# Altium integrated library ALTIUM-WCAP-PHGP-rev18a.IntLib: 20 symbols
Pins are listed as number, name and electrical type; pins without a type are passive.

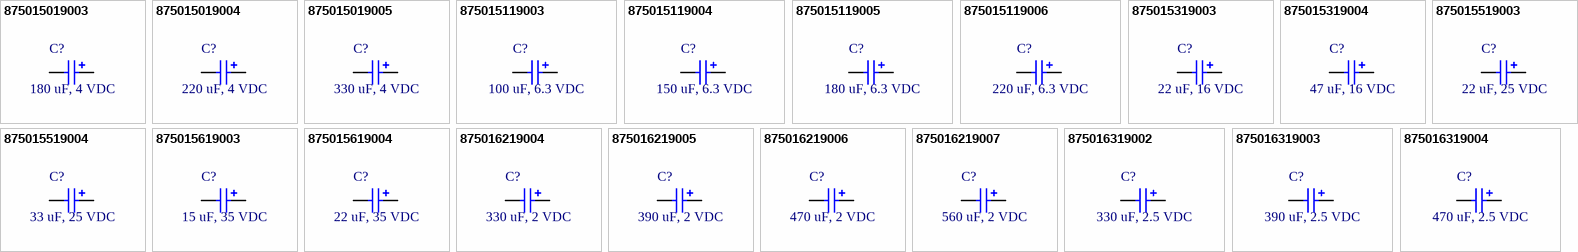
[diagram p0: symbols 875015019003 to 875016319004]

## 875015019003
designator C?, comment 180 uF, 4 VDC
Aluminum Polymer Capacitors WCAP-PHGP, 180 uF, 4 VDC; Part Number: 875015019003; Rated Voltage: 4 VDC; Capacitance: 180 uF; Leakage Current: 72 uA; Dissipation Factor: 6%; Endurance: 2000 h; ESR Resistance: 12 mOhm; Ripple Current: 5.6 A; ComponentLink1Description: Manufacturer; ComponentLink1URL: http://www.we-online.de; ComponentLink2Description: Datasheet; ComponentLink2URL: https://katalog.we-online.de/pbs/datasheet/875015019003.pdf; Published Date: November 2018; Publisher: Wurth Elektronik; Size: 7.3x4.3x1.9; Operating Temperature: -55 to +105 degC; Mounting Technology: SMT; Packaging: Tape and Reel
footprint WCAP-PHGP_7.3x4.3x1.9
pins: 1 K, 2 A

## 875015019004
designator C?, comment 220 uF, 4 VDC
Aluminum Polymer Capacitors WCAP-PHGP, 220 uF, 4 VDC; Part Number: 875015019004; Rated Voltage: 4 VDC; Capacitance: 220 uF; Leakage Current: 88 uA; Dissipation Factor: 6%; Endurance: 2000 h; ESR Resistance: 12 mOhm; Ripple Current: 5.6 A; ComponentLink1Description: Manufacturer; ComponentLink1URL: http://www.we-online.de; ComponentLink2Description: Datasheet; ComponentLink2URL: https://katalog.we-online.de/pbs/datasheet/875015019004.pdf; Published Date: November 2018; Publisher: Wurth Elektronik; Size: 7.3x4.3x1.9; Operating Temperature: -55 to +105 degC; Mounting Technology: SMT; Packaging: Tape and Reel
footprint WCAP-PHGP_7.3x4.3x1.9
pins: 1 K, 2 A

## 875015019005
designator C?, comment 330 uF, 4 VDC
Aluminum Polymer Capacitors WCAP-PHGP, 330 uF, 4 VDC; Part Number: 875015019005; Rated Voltage: 4 VDC; Capacitance: 330 uF; Leakage Current: 132 uA; Dissipation Factor: 6%; Endurance: 2000 h; ESR Resistance: 15 mOhm; Ripple Current: 5.1 A; ComponentLink1Description: Manufacturer; ComponentLink1URL: http://www.we-online.de; ComponentLink2Description: Datasheet; ComponentLink2URL: https://katalog.we-online.de/pbs/datasheet/875015019005.pdf; Published Date: November 2018; Publisher: Wurth Elektronik; Size: 7.3x4.3x1.9; Operating Temperature: -55 to +105 degC; Mounting Technology: SMT; Packaging: Tape and Reel
footprint WCAP-PHGP_7.3x4.3x1.9
pins: 1 K, 2 A

## 875015119003
designator C?, comment 100 uF, 6.3 VDC
Aluminum Polymer Capacitors WCAP-PHGP, 100 uF, 6.3 VDC; Part Number: 875015119003; Rated Voltage: 6.3 VDC; Capacitance: 100 uF; Leakage Current: 63 uA; Dissipation Factor: 6%; Endurance: 2000 h; ESR Resistance: 15 mOhm; Ripple Current: 5.1 A; ComponentLink1Description: Manufacturer; ComponentLink1URL: http://www.we-online.de; ComponentLink2Description: Datasheet; ComponentLink2URL: https://katalog.we-online.de/pbs/datasheet/875015119003.pdf; Published Date: November 2018; Publisher: Wurth Elektronik; Size: 7.3x4.3x1.9; Operating Temperature: -55 to +105 degC; Mounting Technology: SMT; Packaging: Tape and Reel
footprint WCAP-PHGP_7.3x4.3x1.9
pins: 1 K, 2 A

## 875015119004
designator C?, comment 150 uF, 6.3 VDC
Aluminum Polymer Capacitors WCAP-PHGP, 150 uF, 6.3 VDC; Part Number: 875015119004; Rated Voltage: 6.3 VDC; Capacitance: 150 uF; Leakage Current: 94.5 uA; Dissipation Factor: 6%; Endurance: 2000 h; ESR Resistance: 15 mOhm; Ripple Current: 5.1 A; ComponentLink1Description: Manufacturer; ComponentLink1URL: http://www.we-online.de; ComponentLink2Description: Datasheet; ComponentLink2URL: https://katalog.we-online.de/pbs/datasheet/875015119004.pdf; Published Date: November 2018; Publisher: Wurth Elektronik; Size: 7.3x4.3x1.9; Operating Temperature: -55 to +105 degC; Mounting Technology: SMT; Packaging: Tape and Reel
footprint WCAP-PHGP_7.3x4.3x1.9
pins: 1 K, 2 A

## 875015119005
designator C?, comment 180 uF, 6.3 VDC
Aluminum Polymer Capacitors WCAP-PHGP, 180 uF, 6.3 VDC; Part Number: 875015119005; Rated Voltage: 6.3 VDC; Capacitance: 180 uF; Leakage Current: 113.4 uA; Dissipation Factor: 6%; Endurance: 2000 h; ESR Resistance: 12 mOhm; Ripple Current: 5.1 A; ComponentLink1Description: Manufacturer; ComponentLink1URL: http://www.we-online.de; ComponentLink2Description: Datasheet; ComponentLink2URL: https://katalog.we-online.de/pbs/datasheet/875015119005.pdf; Published Date: November 2018; Publisher: Wurth Elektronik; Size: 7.3x4.3x1.9; Operating Temperature: -55 to +105 degC; Mounting Technology: SMT; Packaging: Tape and Reel
footprint WCAP-PHGP_7.3x4.3x1.9
pins: 1 K, 2 A

## 875015119006
designator C?, comment 220 uF, 6.3 VDC
Aluminum Polymer Capacitors WCAP-PHGP, 220 uF, 6.3 VDC; Part Number: 875015119006; Rated Voltage: 6.3 VDC; Capacitance: 220 uF; Leakage Current: 138.6 uA; Dissipation Factor: 6%; Endurance: 2000 h; ESR Resistance: 15 mOhm; Ripple Current: 5.1 A; ComponentLink1Description: Manufacturer; ComponentLink1URL: http://www.we-online.de; ComponentLink2Description: Datasheet; ComponentLink2URL: https://katalog.we-online.de/pbs/datasheet/875015119006.pdf; Published Date: November 2018; Publisher: Wurth Elektronik; Size: 7.3x4.3x1.9; Operating Temperature: -55 to +105 degC; Mounting Technology: SMT; Packaging: Tape and Reel
footprint WCAP-PHGP_7.3x4.3x1.9
pins: 1 K, 2 A

## 875015319003
designator C?, comment 22 uF, 16 VDC
Aluminum Polymer Capacitors WCAP-PHGP, 22 uF, 16 VDC; Part Number: 875015319003; Rated Voltage: 16 VDC; Capacitance: 22 uF; Leakage Current: 105.6 uA; Dissipation Factor: 6%; Endurance: 2000 h; ESR Resistance: 40 mOhm; Ripple Current: 3.2 A; ComponentLink1Description: Manufacturer; ComponentLink1URL: http://www.we-online.de; ComponentLink2Description: Datasheet; ComponentLink2URL: https://katalog.we-online.de/pbs/datasheet/875015319003.pdf; Published Date: November 2018; Publisher: Wurth Elektronik; Size: 7.3x4.3x1.9; Operating Temperature: -55 to +105 degC; Mounting Technology: SMT; Packaging: Tape and Reel
footprint WCAP-PHGP_7.3x4.3x1.9
pins: 1 K, 2 A

## 875015319004
designator C?, comment 47 uF, 16 VDC
Aluminum Polymer Capacitors WCAP-PHGP, 47 uF, 16 VDC; Part Number: 875015319004; Rated Voltage: 16 VDC; Capacitance: 47 uF; Leakage Current: 225.6 uA; Dissipation Factor: 6%; Endurance: 2000 h; ESR Resistance: 40 mOhm; Ripple Current: 3.2 A; ComponentLink1Description: Manufacturer; ComponentLink1URL: http://www.we-online.de; ComponentLink2Description: Datasheet; ComponentLink2URL: https://katalog.we-online.de/pbs/datasheet/875015319004.pdf; Published Date: November 2018; Publisher: Wurth Elektronik; Size: 7.3x4.3x1.9; Operating Temperature: -55 to +105 degC; Mounting Technology: SMT; Packaging: Tape and Reel
footprint WCAP-PHGP_7.3x4.3x1.9
pins: 1 K, 2 A

## 875015519003
designator C?, comment 22 uF, 25 VDC
Aluminum Polymer Capacitors WCAP-PHGP, 22 uF, 25 VDC; Part Number: 875015519003; Rated Voltage: 25 VDC; Capacitance: 22 uF; Leakage Current: 165 uA; Dissipation Factor: 6%; Endurance: 2000 h; ESR Resistance: 40 mOhm; Ripple Current: 3.2 A; ComponentLink1Description: Manufacturer; ComponentLink1URL: http://www.we-online.de; ComponentLink2Description: Datasheet; ComponentLink2URL: https://katalog.we-online.de/pbs/datasheet/875015519003.pdf; Published Date: November 2018; Publisher: Wurth Elektronik; Size: 7.3x4.3x1.9; Operating Temperature: -55 to +105 degC; Mounting Technology: SMT; Packaging: Tape and Reel
footprint WCAP-PHGP_7.3x4.3x1.9
pins: 1 K, 2 A

## 875015519004
designator C?, comment 33 uF, 25 VDC
Aluminum Polymer Capacitors WCAP-PHGP, 33 uF, 25 VDC; Part Number: 875015519004; Rated Voltage: 25 VDC; Capacitance: 33 uF; Leakage Current: 247.5 uA; Dissipation Factor: 6%; Endurance: 2000 h; ESR Resistance: 40 mOhm; Ripple Current: 3.2 A; ComponentLink1Description: Manufacturer; ComponentLink1URL: http://www.we-online.de; ComponentLink2Description: Datasheet; ComponentLink2URL: https://katalog.we-online.de/pbs/datasheet/875015519004.pdf; Published Date: November 2018; Publisher: Wurth Elektronik; Size: 7.3x4.3x1.9; Operating Temperature: -55 to +105 degC; Mounting Technology: SMT; Packaging: Tape and Reel
footprint WCAP-PHGP_7.3x4.3x1.9
pins: 1 K, 2 A

## 875015619003
designator C?, comment 15 uF, 35 VDC
Aluminum Polymer Capacitors WCAP-PHGP, 15 uF, 35 VDC; Part Number: 875015619003; Rated Voltage: 35 VDC; Capacitance: 15 uF; Leakage Current: 157.5 uA; Dissipation Factor: 6%; Endurance: 2000 h; ESR Resistance: 40 mOhm; Ripple Current: 3.2 A; ComponentLink1Description: Manufacturer; ComponentLink1URL: http://www.we-online.de; ComponentLink2Description: Datasheet; ComponentLink2URL: https://katalog.we-online.de/pbs/datasheet/875015619003.pdf; Published Date: November 2018; Publisher: Wurth Elektronik; Size: 7.3x4.3x1.9; Operating Temperature: -55 to +105 degC; Mounting Technology: SMT; Packaging: Tape and Reel
footprint WCAP-PHGP_7.3x4.3x1.9
pins: 1 K, 2 A

## 875015619004
designator C?, comment 22 uF, 35 VDC
Aluminum Polymer Capacitors WCAP-PHGP, 22 uF, 35 VDC; Part Number: 875015619004; Rated Voltage: 35 VDC; Capacitance: 22 uF; Leakage Current: 231 uA; Dissipation Factor: 6%; Endurance: 2000 h; ESR Resistance: 40 mOhm; Ripple Current: 3.2 A; ComponentLink1Description: Manufacturer; ComponentLink1URL: http://www.we-online.de; ComponentLink2Description: Datasheet; ComponentLink2URL: https://katalog.we-online.de/pbs/datasheet/875015619004.pdf; Published Date: November 2018; Publisher: Wurth Elektronik; Size: 7.3x4.3x1.9; Operating Temperature: -55 to +105 degC; Mounting Technology: SMT; Packaging: Tape and Reel
footprint WCAP-PHGP_7.3x4.3x1.9
pins: 1 K, 2 A

## 875016219004
designator C?, comment 330 uF, 2 VDC
Aluminum Polymer Capacitors WCAP-PHGP, 330 uF, 2 VDC; Part Number: 875016219004; Rated Voltage: 2 VDC; Capacitance: 330 uF; Leakage Current: 66 uA; Dissipation Factor: 6%; Endurance: 2000 h; ESR Resistance: 12 mOhm; Ripple Current: 5.6 A; ComponentLink1Description: Manufacturer; ComponentLink1URL: http://www.we-online.de; ComponentLink2Description: Datasheet; ComponentLink2URL: https://katalog.we-online.de/pbs/datasheet/875016219004.pdf; Published Date: November 2018; Publisher: Wurth Elektronik; Size: 7.3x4.3x1.9; Operating Temperature: -55 to +105 degC; Mounting Technology: SMT; Packaging: Tape and Reel
footprint WCAP-PHGP_7.3x4.3x1.9
pins: 1 K, 2 A

## 875016219005
designator C?, comment 390 uF, 2 VDC
Aluminum Polymer Capacitors WCAP-PHGP, 390 uF, 2 VDC; Part Number: 875016219005; Rated Voltage: 2 VDC; Capacitance: 390 uF; Leakage Current: 78 uA; Dissipation Factor: 6%; Endurance: 2000 h; ESR Resistance: 15 mOhm; Ripple Current: 5.1 A; ComponentLink1Description: Manufacturer; ComponentLink1URL: http://www.we-online.de; ComponentLink2Description: Datasheet; ComponentLink2URL: https://katalog.we-online.de/pbs/datasheet/875016219005.pdf; Published Date: November 2018; Publisher: Wurth Elektronik; Size: 7.3x4.3x1.9; Operating Temperature: -55 to +105 degC; Mounting Technology: SMT; Packaging: Tape and Reel
footprint WCAP-PHGP_7.3x4.3x1.9
pins: 1 K, 2 A

## 875016219006
designator C?, comment 470 uF, 2 VDC
Aluminum Polymer Capacitors WCAP-PHGP, 470 uF, 2 VDC; Part Number: 875016219006; Rated Voltage: 2 VDC; Capacitance: 470 uF; Leakage Current: 94 uA; Dissipation Factor: 6%; Endurance: 2000 h; ESR Resistance: 15 mOhm; Ripple Current: 5.1 A; ComponentLink1Description: Manufacturer; ComponentLink1URL: http://www.we-online.de; ComponentLink2Description: Datasheet; ComponentLink2URL: https://katalog.we-online.de/pbs/datasheet/875016219006.pdf; Published Date: November 2018; Publisher: Wurth Elektronik; Size: 7.3x4.3x1.9; Operating Temperature: -55 to +105 degC; Mounting Technology: SMT; Packaging: Tape and Reel
footprint WCAP-PHGP_7.3x4.3x1.9
pins: 1 K, 2 A

## 875016219007
designator C?, comment 560 uF, 2 VDC
Aluminum Polymer Capacitors WCAP-PHGP, 560 uF, 2 VDC; Part Number: 875016219007; Rated Voltage: 2 VDC; Capacitance: 560 uF; Leakage Current: 112 uA; Dissipation Factor: 6%; Endurance: 2000 h; ESR Resistance: 15 mOhm; Ripple Current: 5.1 A; ComponentLink1Description: Manufacturer; ComponentLink1URL: http://www.we-online.de; ComponentLink2Description: Datasheet; ComponentLink2URL: https://katalog.we-online.de/pbs/datasheet/875016219007.pdf; Published Date: November 2018; Publisher: Wurth Elektronik; Size: 7.3x4.3x1.9; Operating Temperature: -55 to +105 degC; Mounting Technology: SMT; Packaging: Tape and Reel
footprint WCAP-PHGP_7.3x4.3x1.9
pins: 1 K, 2 A

## 875016319002
designator C?, comment 330 uF, 2.5 VDC
Aluminum Polymer Capacitors WCAP-PHGP, 330 uF, 2.5 VDC; Part Number: 875016319002; Rated Voltage: 2.5 VDC; Capacitance: 330 uF; Leakage Current: 82.5 uA; Dissipation Factor: 6%; Endurance: 2000 h; ESR Resistance: 15 mOhm; Ripple Current: 5.1 A; ComponentLink1Description: Manufacturer; ComponentLink1URL: http://www.we-online.de; ComponentLink2Description: Datasheet; ComponentLink2URL: https://katalog.we-online.de/pbs/datasheet/875016319002.pdf; Published Date: November 2018; Publisher: Wurth Elektronik; Size: 7.3x4.3x1.9; Operating Temperature: -55 to +105 degC; Mounting Technology: SMT; Packaging: Tape and Reel
footprint WCAP-PHGP_7.3x4.3x1.9
pins: 1 K, 2 A

## 875016319003
designator C?, comment 390 uF, 2.5 VDC
Aluminum Polymer Capacitors WCAP-PHGP, 390 uF, 2.5 VDC; Part Number: 875016319003; Rated Voltage: 2.5 VDC; Capacitance: 390 uF; Leakage Current: 97.5 uA; Dissipation Factor: 6%; Endurance: 2000 h; ESR Resistance: 15 mOhm; Ripple Current: 5.1 A; ComponentLink1Description: Manufacturer; ComponentLink1URL: http://www.we-online.de; ComponentLink2Description: Datasheet; ComponentLink2URL: https://katalog.we-online.de/pbs/datasheet/875016319003.pdf; Published Date: November 2018; Publisher: Wurth Elektronik; Size: 7.3x4.3x1.9; Operating Temperature: -55 to +105 degC; Mounting Technology: SMT; Packaging: Tape and Reel
footprint WCAP-PHGP_7.3x4.3x1.9
pins: 1 K, 2 A

## 875016319004
designator C?, comment 470 uF, 2.5 VDC
Aluminum Polymer Capacitors WCAP-PHGP, 470 uF, 2.5 VDC; Part Number: 875016319004; Rated Voltage: 2.5 VDC; Capacitance: 470 uF; Leakage Current: 117.5 uA; Dissipation Factor: 6%; Endurance: 2000 h; ESR Resistance: 15 mOhm; Ripple Current: 5.1 A; ComponentLink1Description: Manufacturer; ComponentLink1URL: http://www.we-online.de; ComponentLink2Description: Datasheet; ComponentLink2URL: https://katalog.we-online.de/pbs/datasheet/875016319004.pdf; Published Date: November 2018; Publisher: Wurth Elektronik; Size: 7.3x4.3x1.9; Operating Temperature: -55 to +105 degC; Mounting Technology: SMT; Packaging: Tape and Reel
footprint WCAP-PHGP_7.3x4.3x1.9
pins: 1 K, 2 A